# EAGLE library part MOLEX-6 (library other)
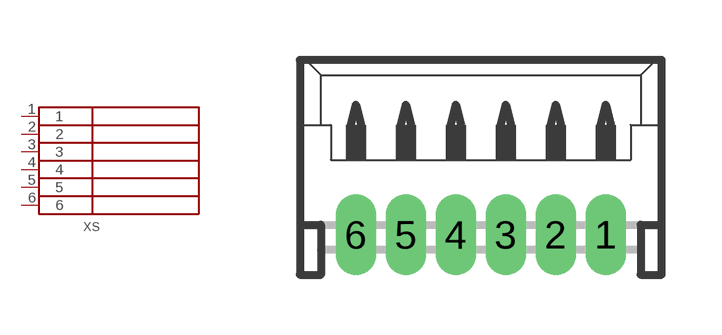
[diagram p1: symbol with the pads of 53048-06; footprint 53048-06]

Designator prefix XS

## MOLEX-6  [53048-06]
1  1
2  2
3  3
4  4
5  5
6  6

## Footprint 53048-06 (pad centres in mm)
CONNECTOR wire to board 1.25 mm (.049 inch) pitch header right angle
drill 0.5 pad 0.698 long: 1 3.125,-1.25; 2 1.875,-1.25; 3 0.625,-1.25; 4 -0.625,-1.25; 5 -1.875,-1.25; 6 -3.125,-1.25